# Altium schematic symbol library switches.SchLib: 2 symbols
Pins are listed as number, name and electrical type; pins without a type are passive.

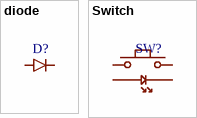
[diagram p0: symbols diode to Switch]

## diode
designator D?
footprint UDZVTE1722B
pins: 1, 2

## Switch
designator SW?
footprint kailh_low_profile_v2_led
pins: 0, 1, 3, 4